# Altium footprint library Vishay Roederstein Footprints.PcbLib: 150 footprints (part 10 of 10)
Each footprint in its own frame and in the unit in brackets; x right, y up, seen from the top. Pads: shape width x height; smd on the part's side, far side on the other; paste and mask are expansions set on the pad; w line width, h text height; cw(c..) or ccw(c..) is an arc to the next point about the centre after c.
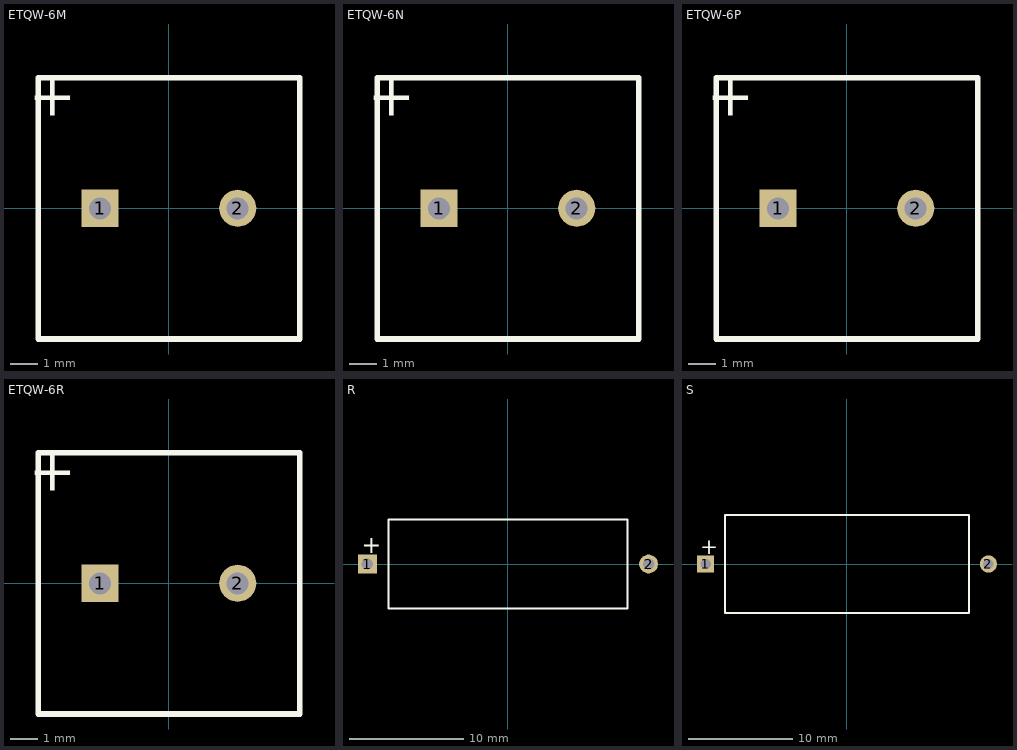
[diagram p9: the footprints below, top view; thin cyan lines are the x and y axes]

## ETQW-6M [mm] "Capacitor, Tantalum Bead; Body 9.5 x 17 mm (Dia.xH max); Pin Spacing 5.0 mm (typ)"
height 17
pads (2):
  rect 1.35x1.35 hole 0.8: 1(-2.5,0)
  round 1.35 hole 0.8: 2(2.5,0)
Top Overlay:
  lines w0.2: -4.747,-4.75 -4.747,4.75 4.753,4.75 4.753,-4.75 -4.747,-4.75
  text "+" at -3.375,4.652 h1.5

## ETQW-6N [mm] "Capacitor, Tantalum Bead; Body 9.5 x 17 mm (Dia.xH max); Pin Spacing 5.0 mm (typ)"
height 17
pads (2):
  rect 1.35x1.35 hole 0.8: 1(-2.5,0)
  round 1.35 hole 0.8: 2(2.5,0)
Top Overlay:
  lines w0.2: -4.747,-4.75 -4.747,4.75 4.753,4.75 4.753,-4.75 -4.747,-4.75
  text "+" at -3.375,4.652 h1.5

## ETQW-6P [mm] "Capacitor, Tantalum Bead; Body 9.5 x 17 mm (Dia.xH max); Pin Spacing 5.0 mm (typ)"
height 17
pads (2):
  rect 1.35x1.35 hole 0.8: 1(-2.5,0)
  round 1.35 hole 0.8: 2(2.5,0)
Top Overlay:
  lines w0.2: -4.747,-4.75 -4.747,4.75 4.753,4.75 4.753,-4.75 -4.747,-4.75
  text "+" at -3.375,4.652 h1.5

## ETQW-6R [mm] "Capacitor, Tantalum Bead; Body 9.5 x 17 mm (Dia.xH max); Pin Spacing 5.0 mm (typ)"
height 17
pads (2):
  rect 1.35x1.35 hole 0.8: 1(-2.5,0)
  round 1.35 hole 0.8: 2(2.5,0)
Top Overlay:
  lines w0.2: -4.747,-4.75 -4.747,4.75 4.753,4.75 4.753,-4.75 -4.747,-4.75
  text "+" at -3.375,4.652 h1.5

## R [mm] "Capacitor, Axial, Polarised; Body 20.9 x 7.8 mm (LxDia. max), Lead Dia. 0.65 mm (typ)"
height 7.8
pads (2):
  rect 1.65x1.65 hole 1: 1(-12.3,0)
  round 1.65 hole 1: 2(12.3,0)
Top Overlay:
  lines w0.2: -10.45,-3.9 10.45,-3.9 10.45,3.9 -10.45,3.9 -10.45,-3.9
  text "+" at -12.8,0.95 h1.5

## S [mm] "Capacitor, Axial, Polarised; Body 23.4 x 9.3 mm (LxDia. max), Lead Dia. 0.65 mm (typ)"
height 9.4
pads (2):
  rect 1.65x1.65 hole 1: 1(-13.6,0)
  round 1.65 hole 1: 2(13.6,0)
Top Overlay:
  lines w0.2: -11.75,-4.7 -11.75,4.7 11.75,4.7 11.75,-4.7 -11.75,-4.7
  text "+" at -14.1,0.95 h1.5